# EAGLE library part LIS3DH (library Bikota)
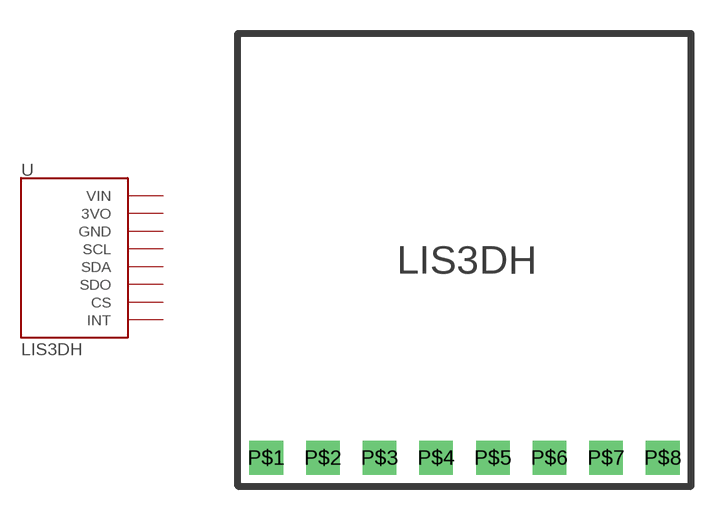
[diagram p1: symbol with the pads of LIS3DH; footprint LIS3DH]

Designator prefix -

## LIS3DH  [LIS3DH]
P$1  VIN  pwr
P$2  3VO  pwr
P$3  GND  pwr
P$4  SCL
P$5  SDA
P$6  SDO
P$7  CS
P$8  INT

## Footprint LIS3DH (pad centres in mm)
drill 1 square: P$1 -8.89,-8.89; P$2 -6.35,-8.89; P$3 -3.81,-8.89; P$4 -1.27,-8.89; P$5 1.27,-8.89; P$6 3.81,-8.89; P$7 6.35,-8.89; P$8 8.89,-8.89